# EAGLE library part LTC3108-SSOP (library umich)
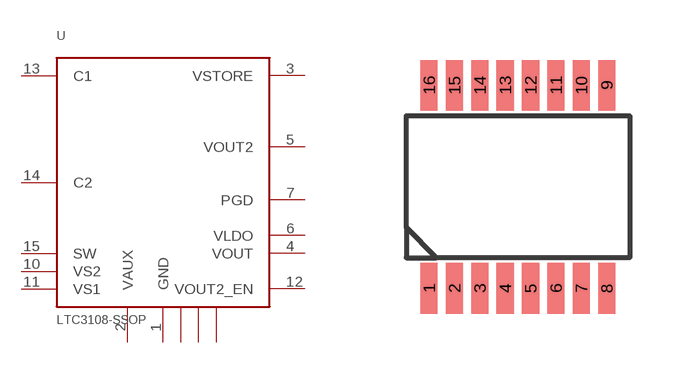
[diagram p2: symbol with the pads of LTC3108SSOP; footprint LTC3108SSOP]

Designator prefix U

## LTC3108-SSOP  [LTC3108SSOP]
1  GND
2  VAUX
3  VSTORE
4  VOUT
5  VOUT2
6  VLDO
7  PGD
8  GND
9  GND
10  VS2
11  VS1
12  VOUT2_EN
13  C1
14  C2
15  SW
16  GND

## Footprint LTC3108SSOP (pad centres in mm)
smd 0.432 x 1.27: 1 -2.223,-2.54; 2 -1.587,-2.54; 3 -0.953,-2.54; 4 -0.318,-2.54; 5 0.318,-2.54; 6 0.953,-2.54; 7 1.587,-2.54; 8 2.223,-2.54; 9 2.223,2.54; 10 1.587,2.54; 11 0.953,2.54; 12 0.318,2.54; 13 -0.318,2.54; 14 -0.953,2.54; 15 -1.587,2.54; 16 -2.223,2.54